# Altium footprint library PCB - STANDOFF - WURTH 9774030151R.PCBLIB: 1 footprints
Each footprint in its own frame and in the unit in brackets; x right, y up, seen from the top. Pads: shape width x height; smd on the part's side, far side on the other; paste and mask are expansions set on the pad; w line width, h text height; cw(c..) or ccw(c..) is an arc to the next point about the centre after c.
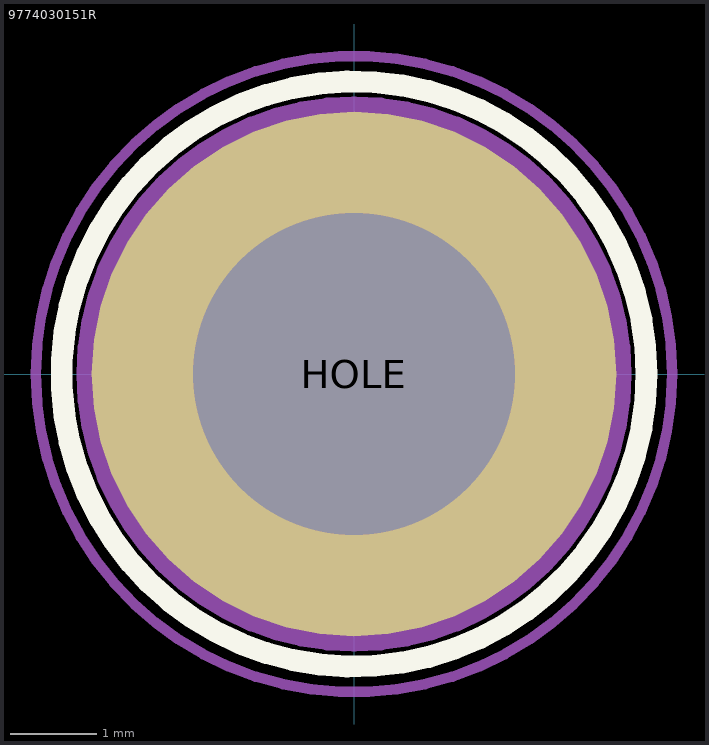
[diagram p0: the footprint, top view; thin cyan lines are the x and y axes]

## 9774030151R [mm]
height 9.52
pads (1):
  round 6.1 hole 3.75: HOLE(0,0)
Top Overlay:
  circle w0.254: c0,0 r3.401
Mechanical 1:
  circle w0.254: c0,0 r3.102
Mechanical 15:
  circle w0.12: c0,0 r3.7
  lines w0.2: -1,0 1,0 ; 0,-1 0,1
3D body "9774030151R (rev1).stp": height 3.01, standoff -1.39, extent -2.55,-2.547 2.55,2.547